# EAGLE library part 10118192-0002LF (library Softgalaxy Pi HAT Lib-Eagle)
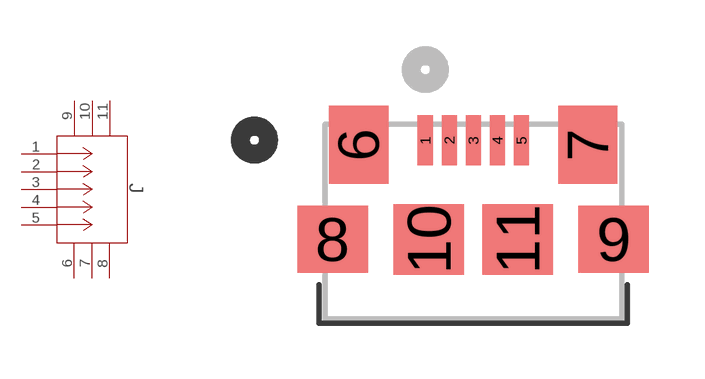
[diagram p9: symbol with the pads of CONN_10118192-0002LF_AMP; footprint CONN_10118192-0002LF_AMP]

Designator prefix J

## 10118192-0002LF (COPYRIGHT: Copyright (C) 2021 Ultra Librarian. All rights reserved.; DIGI-KEY_PART_NUMBER_1: 609-5379-2-ND; DIGI-KEY_PART_NUMBER_2: 609-5379-1-ND; DIGI-KEY_PART_NUMBER_3: 609-5379-6-ND; MANUFACTURER_PART_NUMBER: 10118192-0002LF; MFR_NAME: Amphenol ICC)  [CONN_10118192-0002LF_AMP]
1  1  pas
2  2  pas
3  3  pas
4  4  pas
5  5  pas
6  6  pas
7  7  pas
8  8  pas
9  9  pas
10  10  pas
11  11  pas

## Footprint CONN_10118192-0002LF_AMP (pad centres in mm)
smd 0.406 x 1.346: 1 -1.3,2.204; 2 -0.65,2.204; 3 0,2.204; 4 0.65,2.204; 5 1.3,2.204
smd 1.6 x 2.108: 6 -3.1,2.079; 7 3.1,2.079
smd 1.905 x 1.803: 8 -3.8,-0.471; 9 3.8,-0.471
smd 1.905 x 1.905: 10 -1.2,-0.471; 11 1.2,-0.471